# EAGLE library part STICKIT-HEADER (library xess)
StickIt Header Combined PMOD and Papilio Wing header for use on StickIt add-on boards.
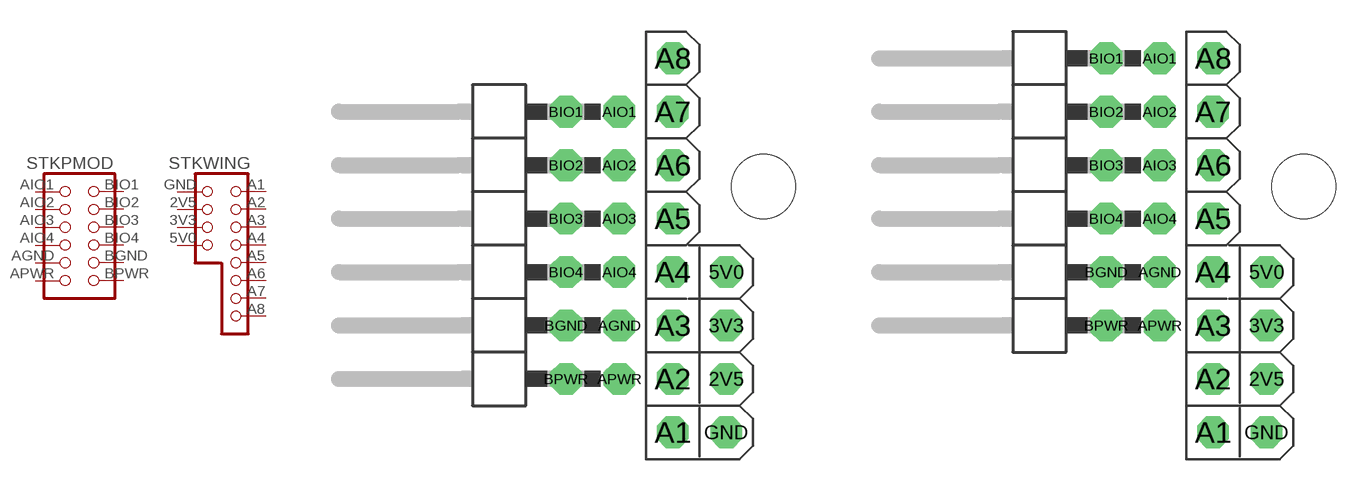
[diagram p143: symbol with the pads of STICKIT-HEADER1; footprints STICKIT-HEADER1, STICKIT-HEADER0]

Designator prefix STK; gates WING=PAPILIO_WING8 PMOD=PMOD12-HEADER

## STICKIT-HEADER1  [STICKIT-HEADER1]
2V5  WING:2V5  pas
3V3  WING:3V3  pas
5V0  WING:5V  pas
A1  WING:A1  pas
A2  WING:A2  pas
A3  WING:A3  pas
A4  WING:A4  pas
A5  WING:A5  pas
A6  WING:A6  pas
A7  WING:A7  pas
A8  WING:A8  pas
AGND  PMOD:AGND  pas
AIO1  PMOD:AIO1  pas
AIO2  PMOD:AIO2  pas
AIO3  PMOD:AIO3  pas
AIO4  PMOD:AIO4  pas
APWR  PMOD:APWR  pas
BGND  PMOD:BGND  pas
BIO1  PMOD:BIO1  pas
BIO2  PMOD:BIO2  pas
BIO3  PMOD:BIO3  pas
BIO4  PMOD:BIO4  pas
BPWR  PMOD:BPWR  pas
GND  WING:GND  pas

## STICKIT-HEADER0  [STICKIT-HEADER0]
Pads as for STICKIT-HEADER1

## STICKIT-HEADER2  [STICKIT-HEADER2]
Pads as for STICKIT-HEADER1

## Footprint STICKIT-HEADER1 (pad centres in mm)
drill 1 octagon: 2V5 5.08,-15.24; 3V3 5.08,-12.7; 5V0 5.08,-10.16; A1 2.54,-17.78; A2 2.54,-15.24; A3 2.54,-12.7; A4 2.54,-10.16; A5 2.54,-7.62; A6 2.54,-5.08; A7 2.54,-2.54; A8 2.54,0; AGND 0,-12.7; AIO1 0,-2.54; AIO2 0,-5.08; AIO3 0,-7.62; AIO4 0,-10.16; APWR 0,-15.24; BGND -2.54,-12.7; BIO1 -2.54,-2.54; BIO2 -2.54,-5.08; BIO3 -2.54,-7.62; BIO4 -2.54,-10.16; BPWR -2.54,-15.24; GND 5.08,-17.78
hole 3.048 at 6.858,-6.096

## Footprint STICKIT-HEADER0 (pad centres in mm)
drill 1 octagon: 2V5 5.08,-15.24; 3V3 5.08,-12.7; 5V0 5.08,-10.16; A1 2.54,-17.78; A2 2.54,-15.24; A3 2.54,-12.7; A4 2.54,-10.16; A5 2.54,-7.62; A6 2.54,-5.08; A7 2.54,-2.54; A8 2.54,0; AGND 0,-10.16; AIO1 0,0; AIO2 0,-2.54; AIO3 0,-5.08; AIO4 0,-7.62; APWR 0,-12.7; BGND -2.54,-10.16; BIO1 -2.54,0; BIO2 -2.54,-2.54; BIO3 -2.54,-5.08; BIO4 -2.54,-7.62; BPWR -2.54,-12.7; GND 5.08,-17.78
hole 3.048 at 6.858,-6.096

## Footprint STICKIT-HEADER2 (pad centres in mm)
drill 1 octagon: 2V5 5.08,-15.24; 3V3 5.08,-12.7; 5V0 5.08,-10.16; A1 2.54,-17.78; A2 2.54,-15.24; A3 2.54,-12.7; A4 2.54,-10.16; A5 2.54,-7.62; A6 2.54,-5.08; A7 2.54,-2.54; A8 2.54,0; AGND 0,-15.24; AIO1 0,-5.08; AIO2 0,-7.62; AIO3 0,-10.16; AIO4 0,-12.7; APWR 0,-17.78; BGND -2.54,-15.24; BIO1 -2.54,-5.08; BIO2 -2.54,-7.62; BIO3 -2.54,-10.16; BIO4 -2.54,-12.7; BPWR -2.54,-17.78; GND 5.08,-17.78
hole 3.048 at 6.858,-6.096